# Altium footprint library 1-Pcblib_Res.PcbLib: 58 footprints (part 3 of 4)
Each footprint in its own frame and in the unit in brackets; x right, y up, seen from the top. Pads: shape width x height; smd on the part's side, far side on the other; paste and mask are expansions set on the pad; w line width, h text height; cw(c..) or ccw(c..) is an arc to the next point about the centre after c.
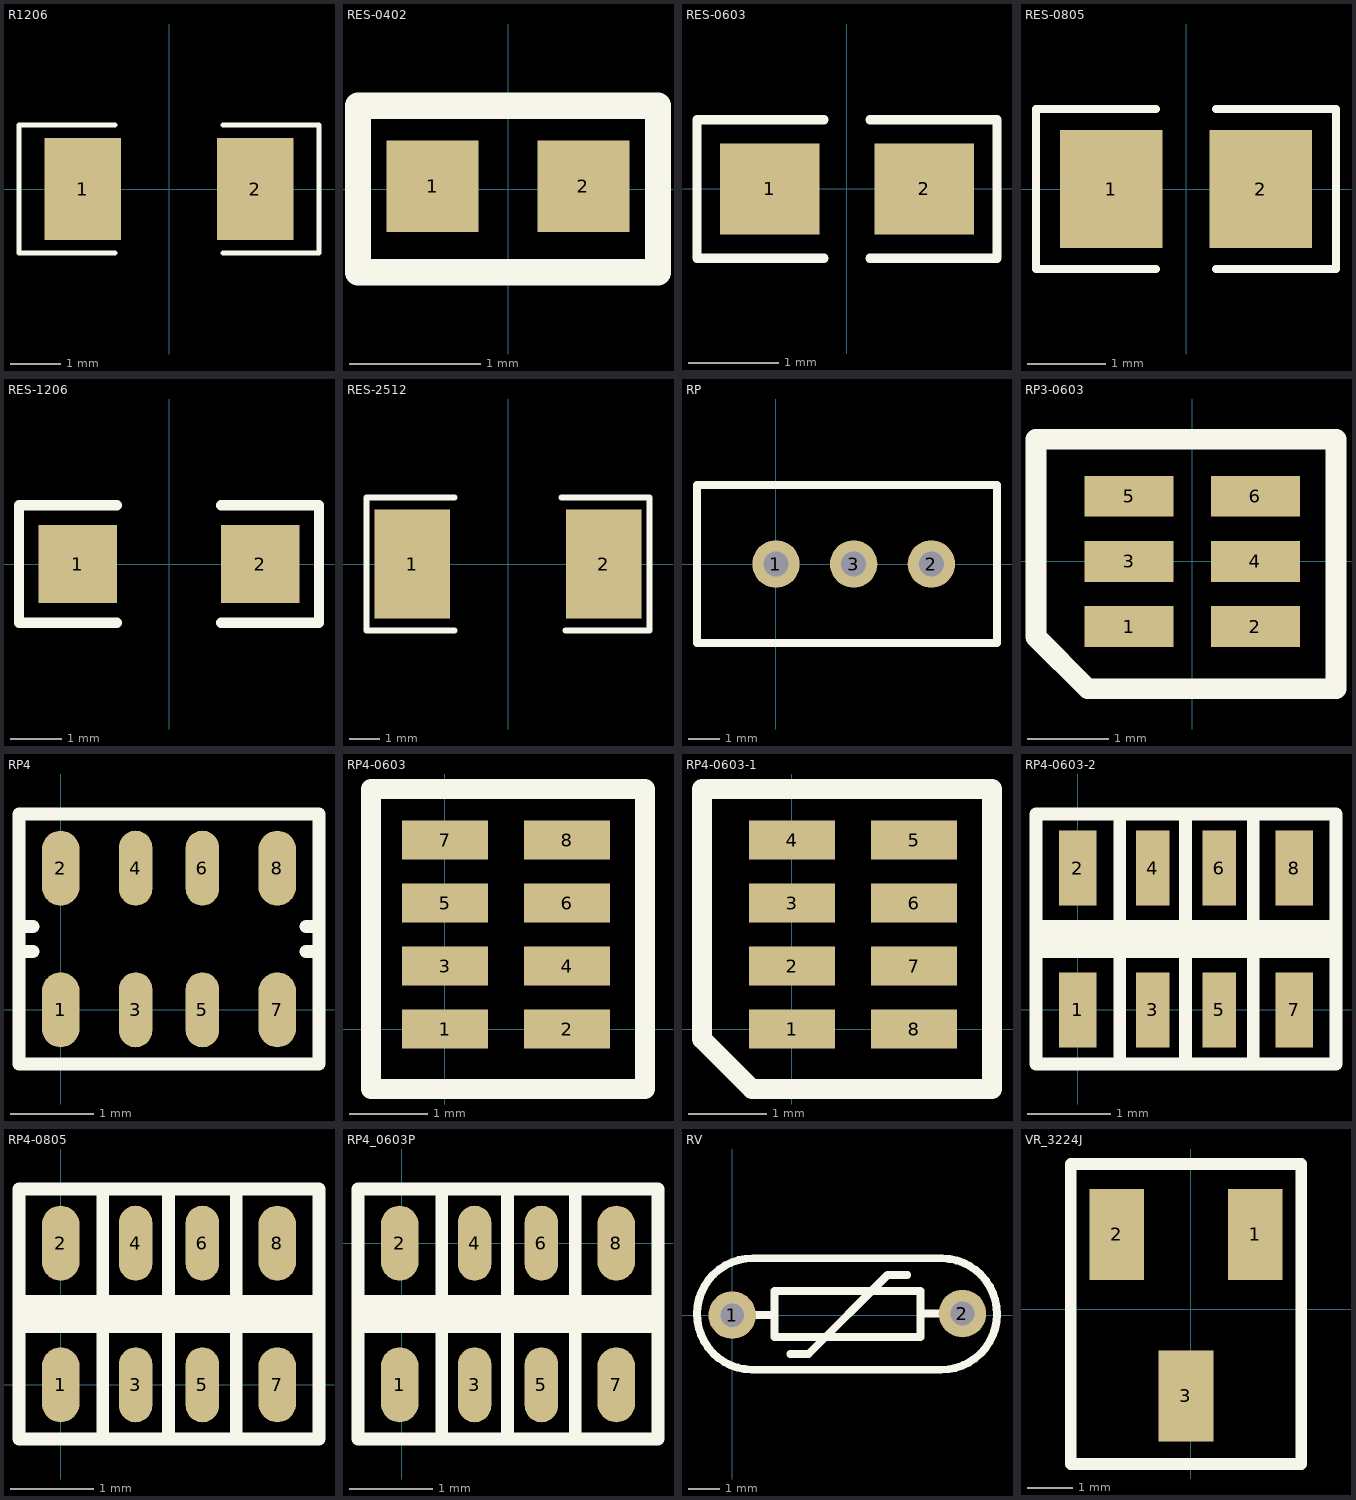
[diagram p2: the footprints below, top view; thin cyan lines are the x and y axes]

## R1206 [mil]
pads (2):
  rect 60x80 smd: 1(-67.5,0) 2(67.5,0)
Top Overlay:
  lines w3.94: -42.5,-50 -117.5,-50 -117.5,50 -42.5,50 ; 42.5,-50 117.5,-50 117.5,50 42.5,50
3D body: height 23.62, standoff 0, extent -62.5,-31 63.48,31.99

## RES-0402 [mm]
height 0.55
pads (2):
  rect 0.7x0.7 smd: 1(-0.575,0.021) 2(0.575,0.021)
Top Overlay:
  lines w0.2: 1.143,-0.635 -1.143,-0.635 -1.143,0.635 1.143,0.635 1.143,-0.627
3D body: height 0.41, standoff 0, extent -0.575,-0.254 0.575,0.296

## RES-0603 [mm]
height 0.6
pads (2):
  rect 1.1x1 smd: 1(-0.85,0) 2(0.85,0)
Top Overlay:
  lines w0.1: -0.254,-0.762 -1.651,-0.762 -1.651,0.762 -0.254,0.762 ; 0.254,-0.762 1.651,-0.762 1.651,0.762 0.254,0.762
3D body: height 0.56, standoff 0, extent -0.85,-0.419 0.85,0.381

## RES-0805 [mm]
height 1.1
pads (2):
  rect 1.3x1.5 smd: 1(-0.95,0) 2(0.95,0)
Top Overlay:
  lines w0.1: -0.381,-1.016 -1.905,-1.016 -1.905,1.016 -0.381,1.016 ; 0.381,-1.016 1.905,-1.016 1.905,1.016 0.381,1.016
3D body: height 0.76, standoff 0, extent -1.15,-0.635 1.15,0.715

## RES-1206 [mil]
height 59.06
pads (2):
  rect 60x60 smd: 1(-70,0) 2(70,0)
Top Overlay:
  lines w7.87: -40,-45 -115,-45 -115,45 -40,45 ; 40,-45 115,-45 115,45 40,45
3D body: height 33.46, standoff 0, extent -70,-35 61.89,33.11

## RES-2512 [mm]
height 1
pads (2):
  rect 2.5x3.6 smd: 1(-3.175,0) 2(3.175,0)
Top Overlay:
  lines w0.2: -1.778,-2.2 -4.699,-2.2 -4.699,2.2 -1.778,2.2 ; 1.778,2.2 4.699,2.2 4.699,-2.2 1.905,-2.2
3D body: height 0.62, standoff 0, extent -3.144,-1.6 3.175,1.6

## RP [mil]
height 23.62
pads (3):
  round 60 hole 31.5: 1(0,0) 2(196.85,0) 3(98.43,0)
Top Overlay:
  lines w10: -100,-100 -100,100 280,100 280,-100 -80,-100 -100,-100
3D body: height 490.47, standoff -198.51, extent -87.2,-93.49 275,95.49

## RP3-0603 [mil]
pads (6):
  rect 43x19.7 smd: 1(-30.5,-31.5) 2(30.5,-31.5) 3(-30.5,0) 4(30.5,0) 5(-30.5,31.5) 6(30.5,31.5)
Top Overlay:
  lines w10: -75.5,-36.5 -50.5,-61.5 -30.5,-61.5 69.5,-61.5 69.5,59.04 -75.5,59.04 -75.5,-36.5

## RP4 [mm]
pads (8):
  oval 0.45x0.9 smd: 1(0,0) 2(0,1.7) 7(2.6,0) 8(2.6,1.7)
  oval 0.4x0.9 smd: 3(0.9,0) 4(0.9,1.7) 5(1.7,0) 6(1.7,1.7)
Top Overlay:
  lines w0.025: -0.45,-0.45 -0.45,2.15 ; -0.45,-0.45 -0.45,2.15 ; -0.45,-0.45 -0.45,2.15 ; 3.05,-0.45 3.05,2.15 ; 3.05,-0.45 3.05,2.15 ; 3.05,-0.45 3.05,2.15
  lines w0.152: -0.5,0.799 -0.5,0.901 ; -0.498,0.7 -0.332,0.7 ; -0.472,1 -0.332,1 ; 2.621,2.35 3.1,2.35 3.1,-0.65 -0.5,-0.65 -0.5,2.35 -0.4,2.35 3,2.35 ; 2.945,0.7 3.098,0.7 ; 2.945,1 3.047,1
3D body: height 0.55, standoff 0, extent -0.305,0.064 2.895,1.664

## RP4-0603 [mil]
height 179.92
pads (8):
  rect 43x19.7 smd: 1(0,0) 2(61,0) 3(0,31.5) 4(61,31.5) 5(0,63) 6(61,63) 7(0,94.5) 8(61,94.5)
Top Overlay:
  lines w10: -37,-30 -37,120 100,120 100,-30 0,-30 -37,-30
3D body: height 21.65, standoff 0, extent -2.49,-15.99 60.5,110

## RP4-0603-1 [mil]
height 179.92
pads (8):
  rect 43x19.7 smd: 1(0,0) 2(0,31.5) 3(0,63) 4(0,94.5) 5(61,94.5) 6(61,63) 7(61,31.5) 8(61,0)
Top Overlay:
  lines w10: -45,-5 -20,-30 0,-30 100,-30 100,120 -45,120 -45,-5
3D body: height 21.65, standoff 0, extent -2.49,-15.99 60.5,110

## RP4-0603-2 [mm]
pads (8):
  rect 0.45x0.9 smd: 1(0,0) 2(0,1.7) 7(2.6,0) 8(2.6,1.7)
  rect 0.4x0.9 smd: 3(0.9,0) 4(0.9,1.7) 5(1.7,0) 6(1.7,1.7)
Top Overlay:
  lines w0.025: -0.45,-0.45 -0.45,2.15 ; -0.45,-0.45 -0.45,2.15 ; -0.45,-0.45 -0.45,2.15 ; 3.05,-0.45 3.05,2.15 ; 3.05,-0.45 3.05,2.15 ; 3.05,-0.45 3.05,2.15
  lines w0.152: -0.498,1 -0.332,1 2.945,1 3.098,1 3.049,0.901 -0.5,0.901 -0.5,0.799 3.049,0.799 3.047,0.7 2.945,0.7 -0.332,0.7 -0.472,0.7 ; 0.506,-0.65 0.506,2.35 ; 1.294,-0.65 1.294,2.35 ; 2.107,-0.65 2.107,2.35 ; 2.621,-0.65 3.1,-0.65 3.1,2.35 -0.5,2.35 -0.5,-0.65 -0.4,-0.65 3,-0.65
3D body: height 0.65, standoff 0, extent -0.33,0 2.87,1.6

## RP4-0805 [mm]
pads (8):
  oval 0.45x0.9 smd: 1(0,0) 2(0,1.7) 7(2.6,0) 8(2.6,1.7)
  oval 0.4x0.9 smd: 3(0.9,0) 4(0.9,1.7) 5(1.7,0) 6(1.7,1.7)
Top Overlay:
  lines w0.025: -0.45,-0.45 -0.45,2.15 ; -0.45,-0.45 -0.45,2.15 ; -0.45,-0.45 -0.45,2.15 ; 3.05,-0.45 3.05,2.15 ; 3.05,-0.45 3.05,2.15 ; 3.05,-0.45 3.05,2.15
  lines w0.152: -0.498,1 -0.332,1 2.945,1 3.098,1 3.049,0.901 -0.5,0.901 -0.5,0.799 3.049,0.799 3.047,0.7 2.945,0.7 -0.332,0.7 -0.472,0.7 ; 0.506,-0.65 0.506,2.35 ; 1.294,-0.65 1.294,2.35 ; 2.107,-0.65 2.107,2.35 ; 2.621,-0.65 3.1,-0.65 3.1,2.35 -0.5,2.35 -0.5,-0.65 -0.4,-0.65 3,-0.65

## RP4_0603P [mm]
height 1.2
pads (8):
  oval 0.45x0.9 smd: 1(-0.022,-1.698) 2(-0.022,0.002) 7(2.578,-1.698) 8(2.578,0.002)
  oval 0.4x0.9 smd: 3(0.878,-1.698) 4(0.878,0.002) 5(1.678,-1.698) 6(1.678,0.002)
Top Overlay:
  lines w0.025: -0.472,-2.148 -0.472,0.452 ; -0.472,-2.148 -0.472,0.452 ; -0.472,-2.148 -0.472,0.452 ; 3.028,-2.148 3.028,0.452 ; 3.028,-2.148 3.028,0.452 ; 3.028,-2.148 3.028,0.452
  lines w0.152: -0.52,-0.998 -0.354,-0.998 2.923,-0.998 3.075,-0.998 3.027,-0.899 -0.522,-0.899 -0.522,-0.797 3.027,-0.797 3.025,-0.698 2.923,-0.698 -0.354,-0.698 -0.494,-0.698 ; 0.484,-2.348 0.484,0.652 ; 1.272,-2.348 1.272,0.652 ; 2.084,-2.348 2.084,0.652 ; 2.599,0.652 3.078,0.652 3.078,-2.348 -0.522,-2.348 -0.522,0.652 -0.422,0.652 2.978,0.652
3D body: height 0.55, standoff 0, extent -0.335,-1.628 2.865,-0.028

## RV [mil]
pads (2):
  round 60 hole 30: 1(0,0) 2(290.55,1.97)
Top Overlay:
  lines w10: 0,0 53.54,0 ; 73.23,-49.21 96.06,-49.21 196.06,50.79 220.87,50.79 ; 236.61,-27.4 236.22,-27.4 53.54,-27.4 53.54,30.71 237.79,30.71 237.79,-27.4 ; 237.79,1.97 290.55,1.97 ; 220.87,50.79 ccw(c220.87,50.79) 220.87,50.79 ; 24.8,-68.9 cw(c25.91,1.46) 25.91,71.82 264.88,71.82 cw(c263.78,1.46) 263.78,-68.9 24.8,-68.9

## VR_3224J [mm]
pads (3):
  rect 1.2x2 smd: 1(1.422,1.651) 2(-1.626,1.651) 3(-0.102,-1.905)
Top Overlay:
  lines w0.254: -2.642,-3.404 2.438,-3.404 2.438,3.2 -2.642,3.2 -2.642,-3.404